# Altium footprint library 768250002.PcbLib: 1 footprints
Each footprint in its own frame and in the unit in brackets; x right, y up, seen from the top. Pads: shape width x height; smd on the part's side, far side on the other; paste and mask are expansions set on the pad; w line width, h text height; cw(c..) or ccw(c..) is an arc to the next point about the centre after c.
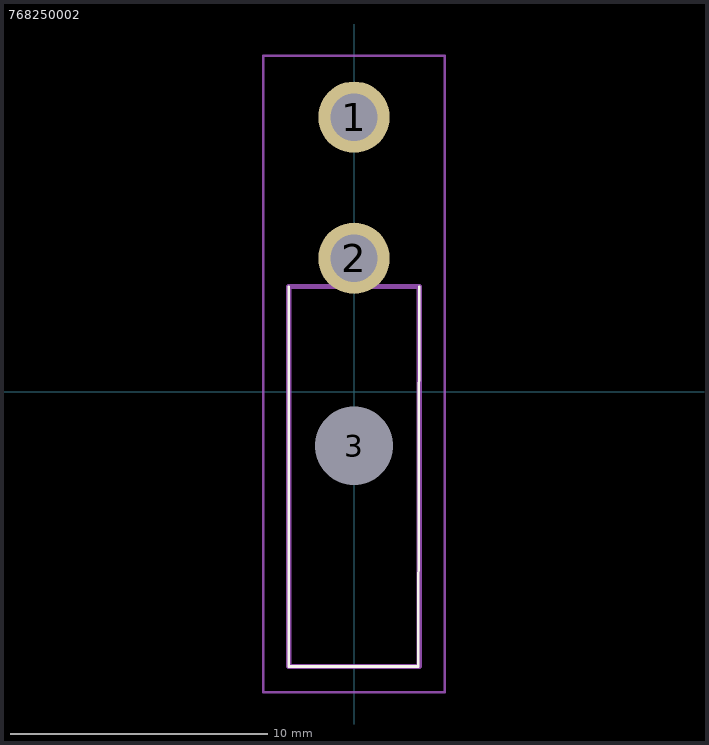
[diagram p0: the footprint, top view; thin cyan lines are the x and y axes]

## 768250002 [mm]
pads (3):
  round 2.775 hole 1.85: 1(0,10.7) 2(0,5.2)
  round 1.525 hole 3.05 unplated: 3(0,-2.1)
Top Overlay:
  lines w0.1: -2.54,4.1 -2.54,-10.7 2.5,-10.7 2.54,4.1
Mechanical 15:
  lines w0.2: -2.54,-10.7 2.54,-10.7 2.54,4.1 -2.54,4.1 -2.54,-10.7
Mechanical 20:
  lines w0.1: -3.54,-11.7 3.54,-11.7 3.54,13.088 -3.54,13.088 -3.54,-11.7